# Altium schematic symbol library 35ZLJ470M10X16.SchLib: 2 symbols
Pins are listed as number, name and electrical type; pins without a type are passive.

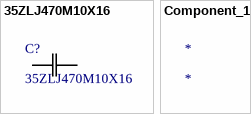
[diagram p0: symbols 35ZLJ470M10X16 to Component_1]

## 35ZLJ470M10X16
designator C?
No Description Available; Mfr_Name: Rubycon; Type: DEV; Copyright: Copyright (C) 2023 Ultra Librarian. All rights reserved.; Manufacturer_Part_Number: 35ZLJ470M10X16; Digi-Key_Part_Number_1: 1189-4073-ND; RefDes: RefDes
footprint CAP_YX_10X16_RUB
pins: 1, 2

## Component_1
designator *